# Altium integrated library WeAct_RP2040.IntLib: 1 symbol
Pins are listed as number, name and electrical type; pins without a type are passive.

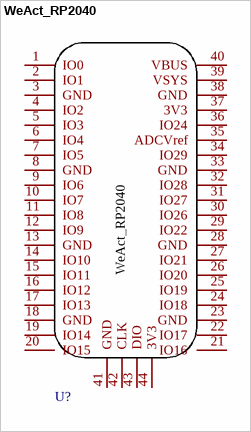
[diagram p0: symbol WeAct_RP2040]

## WeAct_RP2040
designator U?  (value not drawn)
Add into BOM: yes; Symbol: WeAct_RP2040; Device: WeAct_RP2040; Convert to PCB: yes
footprint WeAct_RP2040_2_4_8_16M
pins: 1 IO0, 2 IO1, 3 GND, 4 IO2, 5 IO3, 6 IO4, 7 IO5, 8 GND, 9 IO6, 10 IO7, 11 IO8, 12 IO9, 13 GND, 14 IO10, 15 IO11, 16 IO12, 17 IO13, 18 GND, 19 IO14, 20 IO15, 21 IO16, 22 IO17, 23 GND, 24 IO18, 25 IO19, 26 IO20, 27 IO21, 28 GND, 29 IO22, 30 IO26, 31 IO27, 32 IO28, 33 GND, 34 IO29, 35 ADCVref, 36 IO24, 37 3V3, 38 GND, 39 VSYS, 40 VBUS, 41 GND, 42 CLK, 43 DIO, 44 3V3